# EAGLE library part AUDIO-JACK-PJ-393(8P-SMD) (library MiiLib)
320040009
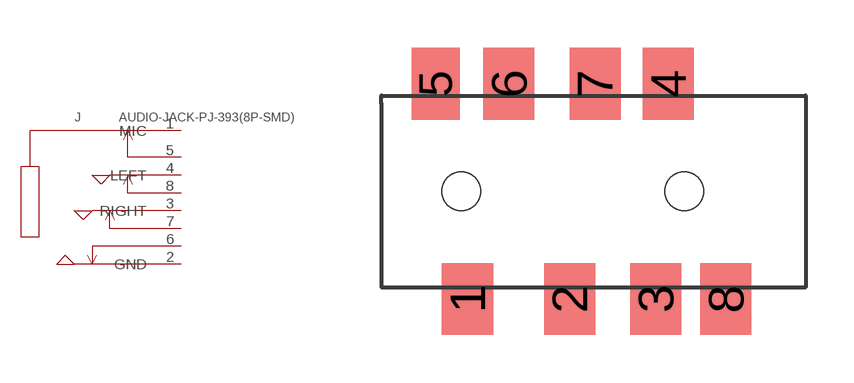
[diagram p10: symbol with the pads of AUDIO8P-SMD-3.5-14.5X6.1X4.0MM; footprint AUDIO8P-SMD-3.5-14.5X6.1X4.0MM]

Designator prefix J

## AUDIO-JACK-PJ-393(8P-SMD) (MPN: PJ-393; VALUE: PJ-393)  [AUDIO8P-SMD-3.5-14.5X6.1X4.0MM]
1  MIC
2  GND
3  RIGHT
4  LEFT
5  5
6  6
7  7
8  8

## Footprint AUDIO8P-SMD-3.5-14.5X6.1X4.0MM (pad centres in mm)
smd 1.6 x 2.25: 1 3.9,-3.375; 2 7.1,-3.375; 3 9.8,-3.375; 4 10.2,3.375; 6 5.2,3.375; 7 7.9,3.375; 8 12,-3.375
smd 1.5 x 2.25: 5 2.9,3.375
hole 1.2 at 3.7,0
hole 1.2 at 10.7,0